# EAGLE library part LM358 (library MIA_LIBRARY-2-2)
LM358 Jellybean op-amp Datasheet <http://www.sparkfun.com/datasheets/Components/General/LM358.pdf> SparkFun Products Op-Amp (Thru-Hole) - LM358 <https://www.sparkfun.com/products/9456> (COM-09456)
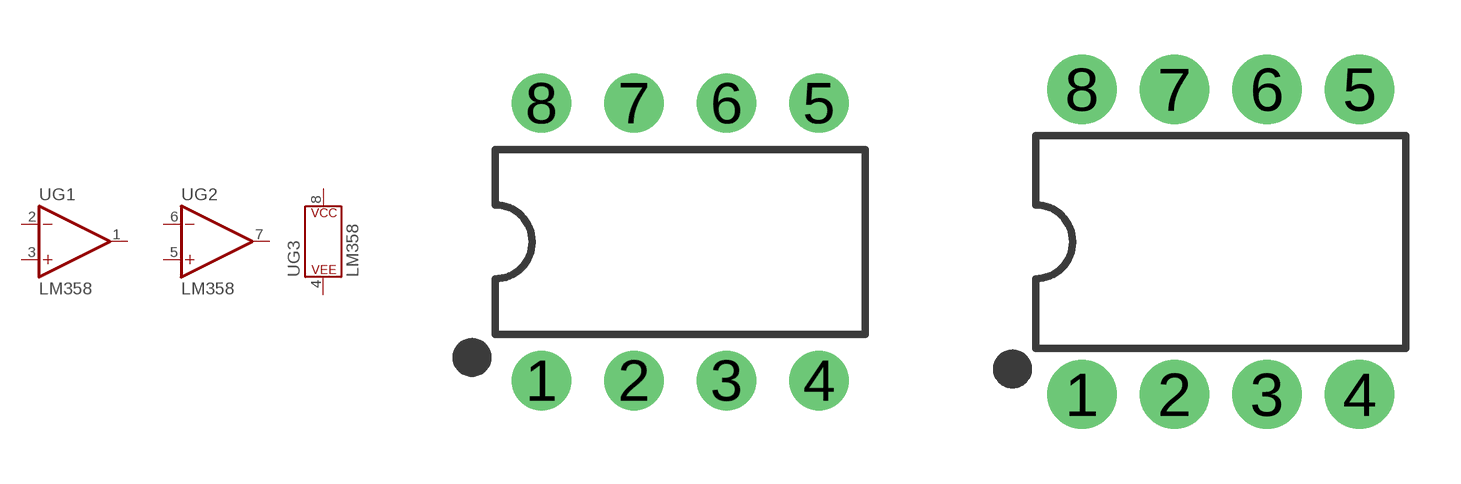
[diagram p57: symbol with the pads of DIP08; footprints DIP08, DIP08-KIT]

Designator prefix U; gates G1=OP-AMP G2=OP-AMP G3=POWER_CONSORT

## LM358 (PROD_ID: IC-09172; VALUE: LM358)  [DIP08]
1  G1:OUT  out
2  G1:-IN  in
3  G1:+IN  in
4  G3:P$V-
5  G2:+IN  in
6  G2:-IN  in
7  G2:OUT  out
8  G3:P$V+

## LM358KIT (PROD_ID: IC-09172; VALUE: LM358)  [DIP08-KIT]
Pads as for DIP08

## Footprint DIP08 (pad centres in mm)
Dual In Line Package
drill 0.813 pad 1.626: 1 -3.81,-3.81; 2 -1.27,-3.81; 3 1.27,-3.81; 4 3.81,-3.81; 5 3.81,3.81; 6 1.27,3.81; 7 -1.27,3.81; 8 -3.81,3.81

## Footprint DIP08-KIT (pad centres in mm)
drill 0.813 pad 1.905: 1 -3.81,-4.191; 2 -1.27,-4.191; 3 1.27,-4.191; 4 3.81,-4.191; 5 3.81,4.191; 6 1.27,4.191; 7 -1.27,4.191
drill 0.864 pad 1.905: 8 -3.81,4.191